# Altium schematic symbol library HyTechDevices.SCHLIB: 241 symbols (part 3 of 4)
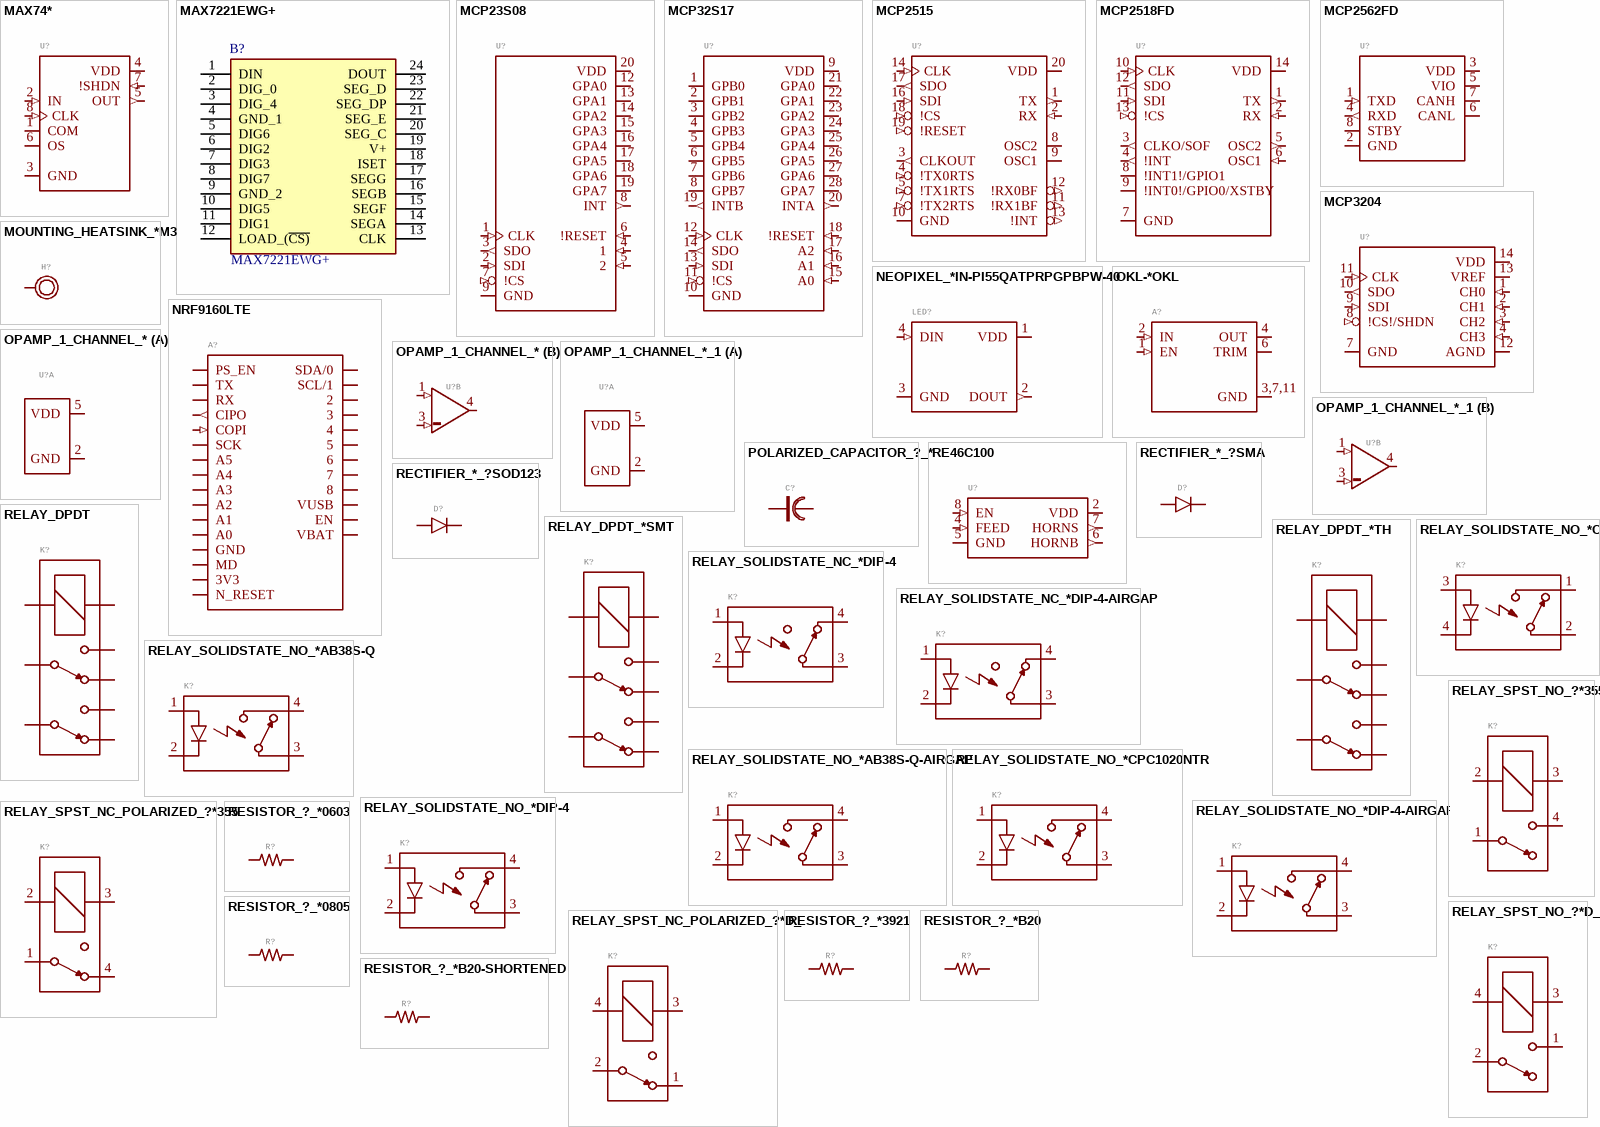
[diagram p9: symbols MAX74* to RESISTOR_?_*B20-SHORTENED]

## RESISTOR_?_*0603
designator R?, comment Resistor  PWR163 Series  AC Series    PU Series  ERA Series  PWR263 Series  KTR Series  RC Series  ERJ PB3, PB6 Series  ERJ  PA2, P03, PA3, P06, P08, P14 Series  B20 Series  TE Connectivity/Holsworthy RN73 Series  Vishay Dale D/CRCW e3  Ohmite B20  (value not drawn)
0603 Reistor; MANUFACTURER: Yageo; MPN: RC0603FR-070RL; MANUFACTURER: Panasonic Electronic Components; MPN: ERJ-3BWFR020V; MPN: RL0603FR-070R5L; MPN: ERJ-3EKF1131V; MPN: CRCW06031M13FKEA; MPN: RC0603FR-071K24L; MPN: ERA-3AEB1331V; MPN: RC0603FR-071M5L; MANUFACTURER: TE Conductivity Passive Product; MPN: CPF0603B1R62E1; MPN: RC0603FR-071K65L; MPN: RC0603FR-0710RL; MPN: ERA-3AEB1022V; MPN: ERA-3AEB1052V; MPN: RC0603FR-07100RL; MPN: RC0603FR-07100KL; MPN: ERA-3ARB103V; MPN: ERA-3AEB1132V; MPN: ERA-3AEB1152V; MPN: ERJ-PB3B1242V; MPN: ERA-3AEB121V; MPN: RC0603FR-0712KL; MPN: ERJ-1GNF13R0C; MPN: ERJ-PB3B1332V; MPN: ERA-3ARW133V; MPN: RT0603BRB0714KL; MPN: CRCW060315R0FKEAHP; MPN: ERA-3AEB154V; MPN: ERA-3AEB1543V; MPN: ERA-3ARB153V; MPN: RC0603FR-0717K8L; MPN: RC0603FR-0718K7L; MPN: RC0603FR-07180RL; MANUFACTURER: TE Connectivity Passive Product; MPN: CPF-A-0603B1K0E; MPN: RC0603FR-071ML; MPN: RT0805BRD072K18L; MPN: RC0603FR-072K55L; MPN: ERJ-PB3B2741V; MPN: RC0603FR-0720KL; MPN: ERJ-PB3B2100V; MPN: ERA-3AEB2153V; MPN: RC0603FR-0722RL; MPN: ERA-3AEB2212V; MPN: RC0603FR-07240RL; MANUFACTURER: Panasonic Electronic Company; MPN: ERA-3AEB2553V; MPN: ERJ-UP3F2001V; MPN: ERJ-3RQF3R3V; MPN: RT0603BRD073K32L; MPN: ERJ-PB3D3301V; MPN: RC0603FR-073K9L; MPN: ERJ-PB3B3092V; MPN: ERA-3ARB303V; MPN: ERJ-PB3B3322V; MPN: ERA-3AEB334V; MANUFACTURER: Rohm Semiconductor; MPN: KTR03EZPF3302; MPN: RC0603FR-0736K5L; MPN: RC0603FR-07360RL; MPN: KTR03EZPF3603; MPN: RC0603FR-07374KL; MPN: RT0603BRD0739RL; MPN: ERA-3AEB4121V; MPN: RC0603FR-074K64L; MPN: RC0603FR-07402RL; MPN: ERJ-1GNF41R2C; MPN: ERJ-PB3B4122V; MPN: RC0603FR-0743KL; MPN: ERJ-PA3F4700V; MPN: ERJ-P03J5R1V; MPN: RC0603FR-075K1L; MPN: RN73C1J5R49BTD; MPN: ERJ-PB3D5491V; MPN: ERA-3AEB5901V; MPN: RT0603BRE0750RL; MPN: KTR03EZPF5103; MPN: RC0603FR-0760R4L; MPN: RC0603FR-07620RL; MPN: ERA-3AEB7322V; MPN: RT0603BRE0775KL; MANUFACTURER: Vishay Dale Thin Film; MPN: PTN0603E8351BST1; MPN: RT0603BRD078K66L; MPN: ERA-3AEB8452V; MPN: ERJ-PB3B9312V; MANUFACTURER: Rohm; MPN: KTR03EZPF3301; MPN: KTR03EZPF7502; MPN: KTR03EZPF7503; GateName_1: G$1; DeviceName: 0603; DeviceSetName: RESISTOR_?_*; DKPN: 311-0.0HRCT-ND; MOPN: 603-RC0603FR-070RL; POWER: 0.1W; RESISTANCE: 0; TOLERANCE: 1%; VOLTAGE_CONTINUOUS: 75V; DKPN: P17461CT-ND; MOPN: 667-ERJ-3BWFR020V; POWER: 0.33W; RESISTANCE: 0.02; VOLTAGE_CONTINUOUS: 0.081V; VOLTAGE_MAX: 150V; DKPN: 311-.5QTR-ND; MOPN: 603-RL0603FR070R5L; RESISTANCE: 0.5; VOLTAGE_CONTINUOUS: 0.22V; DKPN: P1.13KHCT-ND; MOPN: 667-ERJ-3EKF1131V; RESISTANCE: 1.13k; DKPN: 541-1.13MHCT-ND; MOPN: 71-CRCW06031M13FKEA; RESISTANCE: 1.13M; VOLTAGE_MAX: 100V; DKPN: 311-1.24KHRCT-ND; MOPN: 603-RC0603FR-071K24L; RESISTANCE: 1.24k; VOLTAGE_CONTINUOUS: 11.14V; DKPN: P1.33KDBCT-ND; MOPN: 667-ERA-3AEB1331V; RESISTANCE: 1.33k; TOLERANCE: 0.1%; VOLTAGE_CONTINUOUS: 11.53V; DKPN: 311-1.50MHRCT-ND; MOPN: 603-RC0603FR-071M5L; RESISTANCE: 1.5M; DKPN: 1712-CPF0603B1R62E1TR-ND; MOPN: 279-CPF0603B1R62E1; RESISTANCE: 1.62; VOLTAGE_CONTINUOUS: 0.51V; VOLTAGE_MAX: 50V; DKPN: 311-1.65KHRCT-ND; MOPN: 603-RC0603FR-071K65L; RESISTANCE: 1.65k; VOLTAGE_CONTINUOUS: 12.85V; DKPN: 311-10.0HRCT-ND; MOPN: 603-RC0603FR-0710RL; RESISTANCE: 10; VOLTAGE_CONTINUOUS: 1.00V; DKPN: P10.2KDBCT-ND; MOPN: 667-ERA-3AEB1022V; RESISTANCE: 10.2k; VOLTAGE_CONTINUOUS: 31.94V; DKPN: P10.5KDBCT-ND; MOPN: 677-ERA-3AEB1052V; RESISTANCE: 10.5k; VOLTAGE_CONTINUOUS: 32.40V; DKPN: 311-100HRCT-ND; MOPN: 603-RC0603FR-07100RL; RESISTANCE: 100; VOLTAGE_CONTINUOUS: 3.16V; DKPN: 311-100KHRTR-ND; MOPN: 603-RC0603FR-07100KL; RESISTANCE: 100k; DKPN: P10KBDCT-ND; MOPN: 667-ERA-3ARB103V; RESISTANCE: 10k; VOLTAGE_CONTINUOUS: 31.62V; DKPN: P11.3KDBCT-ND; MOPN: 667-ERA-3AEB1132V; RESISTANCE: 11.3k; VOLTAGE_CONTINUOUS: 33.62V; DKPN: P11.5KDBCT-ND; MOPN: 667-ERA-3AEB1152V; RESISTANCE: 11.5k; VOLTAGE_CONTINUOUS: 33.91V; DKPN: P20096CT-ND; MOPN: 667-ERJ-PB3B1242V; POWER: 0.2W; RESISTANCE: 12.4k; VOLTAGE_CONTINUOUS: 49.79V; DKPN: P120DBCT-ND; MOPN: 667-ERA-3AEB121V; RESISTANCE: 120; VOLTAGE_CONTINUOUS: 3.46V; DKPN: 311-12.0KHRCT-ND; MOPN: 603-RC0603FR-0712KL; RESISTANCE: 12k; VOLTAGE_CONTINUOUS: 34.64V; DKPN: P122724CT-ND; MOPN: 667-ERJ-1GNF13R0C; POWER: 0.05W; RESISTANCE: 13; VOLTAGE_CONTINUOUS: 25V; DKPN: P20099TR-ND; MOPN: 667-ERJ-PB3B1332V; RESISTANCE: 13.3k; VOLTAGE_CONTINUOUS: 51.58V; VOLTAGE_MAX: 75k; DKPN: P13KBECT-ND; MOPN: 667-ERA-3ARW133V; RESISTANCE: 13k; TOLERANCE: 0.05%; DKPN: RT0603BRB0714KL-ND; MOPN: 603-RT0603BRB0714KL; RESISTANCE: 14k; VOLTAGE_CONTINUOUS: 37.4V; DKPN: 541-15.0STR-ND; MOPN: 71-CRCW060315R0FKEAH; RESISTANCE: 15; VOLTAGE_CONTINUOUS: 2.22V; DKPN: P150KDBCT-ND; MOPN: 667-ERA-3AEB154V; RESISTANCE: 150k; DKPN: P154KDBCT-ND; MOPN: 667-ERA-3AEB1543V; RESISTANCE: 154k; DKPN: P15KBDCT-ND; MOPN: 667-ERA-3ARB153V; RESISTANCE: 15k; VOLTAGE_CONTINUOUS: 38.73V; DKPN: 311-17.8KHRCT-ND; MOPN: 603-RC0603FR-0717K8L; RESISTANCE: 17.8k; VOLTAGE_CONTINUOUS: 42.19V; DKPN: 311-18.7KHRCT-ND; MOPN: 603-RC0603FR-0718K7L; RESISTANCE: 18.7k; VOLTAGE_CONTINUOUS: 43.24V; DKPN: 311-180HRCT-ND; MOPN: 603-RC0603FR-07180RL; RESISTANCE: 180; VOLTAGE_CONTINUOUS: 4.24V; DKPN: 1712-CPF-A-0603B1K0ETR-ND; MOPN: 279-CPF-A-0603B1K0E; POWER: 0.0625W; RESISTANCE: 1k; VOLTAGE_CONTINUOUS: 7.9V; DKPN: 311-1.00MHRCT-ND; MOPN: 603-RC0603FR-071ML; RESISTANCE: 1M; DKPN: 13-RT0805BRD072K18LTR-ND; MOPN: 603-RT0805BRD072K18L; POWER: 0.125W; RESISTANCE: 2.18k; VOLTAGE_CONTINUOUS: 16.51V; DKPN: 311-2.55KHRCT-ND; MOPN: 603-RC0603FR-072K55L; RESISTANCE: 2.55k; VOLTAGE_CONTINUOUS: 15.97V; DKPN: P20020CT-ND; MOPN: 667-ERJ-PB3B2741V; RESISTANCE: 2.74k; VOLTAGE_CONTINUOUS: 23.41V; DKPN: 311-20.0KHRTR-ND; MOPN: 603-RC0603FR-0720KL; POWER: 0.1 W; RESISTANCE: 20k; VOLTAGE_CONTINUOUS: 44.72V; DKPN: P19892CT-ND; MOPN: 667-ERJ-PB3B2100V; RESISTANCE: 210; VOLTAGE_CONTINUOUS: 6.48V; DKPN: P215KDBCT-ND; MOPN: 667-ERA-3AEB2153V; RESISTANCE: 215k; DKPN: 311-22.0HRCT-ND; MOPN: 603-RC0603FR-0722RL; RESISTANCE: 22; VOLTAGE_CONTINUOUS: 1.48V; DKPN: P22.1KDBCT-ND; MOPN: 667-ERA-3AEB2212V; RESISTANCE: 22.1k; VOLTAGE_CONTINUOUS: 47.01V; DKPN: 311-240HRCT-ND; MOPN: 603-RC0603FR-07240RL; RESISTANCE: 240; VOLTAGE_CONTINUOUS: 4.90V; DKPN: P255KDBCT-ND; MOPN: 667-ERA-3AEB2553V; RESISTANCE: 255k; DKPN: 10-ERJ-UP3F2001VTR-ND; MOPN: 667-ERJ-UP3F2001V; POWER: 0.25W; RESISTANCE: 2k; VOLTAGE_CONTINUOUS: 22.36V; DKPN: P3.3AJTR-ND; MOPN: 667-ERJ-3RQF3R3V; RESISTANCE: 3.3; VOLTAGE_CONTINUOUS: 0.57V; DKPN: YAG1651TR-ND; MOPN: 603-RT0603BRD073K32L; RESISTANCE: 3.32k; VOLTAGE_CONTINUOUS: 18.22V; DKPN: P20340TR-ND; MOPN: 667-ERJ-PB3D3301V; POWER: 0.3W; RESISTANCE: 3.3k; TOLERANCE: 0.5%; VOLTAGE_CONTINUOUS: 25.69V; VOLTAGE_MAX: 150; DKPN: 311-3.90KHRCT-ND; MOPN: 603-RC0603FR-073K9L; RESISTANCE: 3.9k; VOLTAGE_CONTINUOUS: 19.75V; DKPN: P20140CT-ND; MOPN: 667-ERJ-PB3B3092V; RESISTANCE: 30.9k; VOLTAGE_MAX: 200V; DKPN: P30KBDCT-ND; MOPN: 667-ERA-3ARB303V; RESISTANCE: 30k; VOLTAGE_CONTINUOUS: 54.77V; DKPN: P20144TR-ND; MOPN: 667-ERJ-PB3B3322V; RESISTANCE: 33.2k; VOLTAGE_CONTINUOUS: 57.61V; DKPN: P330KDBCT-ND; MOPN: 667-ERA-3AEB334V; RESISTANCE: 330k; DKPN: RHM33KAYTR-ND; MOPN: 755-KTR03EZPF3302; RESISTANCE: 33k; VOLTAGE_CONTINUOUS: 57.44V; VOLTAGE_MAX: 350V; DKPN: 311-36.5KHRCT-ND; MOPN: 603-RC0603FR-0736K5L; RESISTANCE: 36.5k; VOLTAGE_CONTINUOUS: 60.42V; DKPN: 311-360HRTR-ND; MOPN: 603-RC0603FR-07360RL; RESISTANCE: 360; VOLTAGE_CONTINUOUS: 6.00V; DKPN: RHM360KAYTR-ND; MOPN: 755-KTR03EZPF3603; RESISTANCE: 360k; VOLTAGE_CONTINUOUS: 189.74V; DKPN: 311-374KHRCT-ND; MOPN: 603-RC0603FR-07374KL; RESISTANCE: 374k; DKPN: 13-RT0603BRD0739RLTR-ND; MOPN: 603-RT0603BRD0739RL; RESISTANCE: 39; VOLTAGE_CONTINUOUS: 1.97V; DKPN: P4.12KDBCT-ND; MOPN: 667-ERA-3AEB4121V; RESISTANCE: 4.12k; VOLTAGE_CONTINUOUS: 20.30V; DKPN: 311-4.64KHRCT-ND; MOPN: 603-RC0603FR-074K64L; RESISTANCE: 4.64k; VOLTAGE_CONTINUOUS: 21.54V; DKPN: 311-402HRCT-ND; MOPN: 603-RC0603FR-07402RL; RESISTANCE: 402; VOLTAGE_CONTINUOUS: 6.34V; DKPN: P123000CT-ND; MOPN: 667-ERJ-1GNF41R2C; RESISTANCE: 41.2; DKPN: P20155CT-ND; MOPN: 667-ERJ-PB3B4122V; RESISTANCE: 41.2k; DKPN: 311-43.0KHRCT-ND; MOPN: 603-RC0603FR-0743KL; RESISTANCE: 43k; VOLTAGE_CONTINUOUS: 65.57V; DKPN: P470BYCT-ND; MOPN: 667-ERJ-PA3F4700V; RESISTANCE: 470; VOLTAGE_CONTINUOUS: 10.84V; DKPN: P16039TR-ND; MOPN: 667-ERJ-P03J5R1V; RESISTANCE: 5.1; VOLTAGE_CONTINUOUS: 1.13V; DKPN: 311-5.10KHRTR-ND; MOPN: 603-RC0603FR-075K1L; RESISTANCE: 5.1k; VOLTAGE_CONTINUOUS: 22.58V; DKPN: A124665CT-ND; MOPN: 279-RN73C1J5R49BTD; RESISTANCE: 5.49; DKPN: P20367CT-ND; MOPN: 667-ERJ-PB3D5491V; RESISTANCE: 5.49k; DKPN: P5.9KDBCT-ND; MOPN: 667-ERA-3AEB5901V; RESISTANCE: 5.9k; VOLTAGE_CONTINUOUS: 24.29V; DKPN: 13-RT0603BRE0750RLCT-ND; MOPN: 603-RT0603BRE0750RL; RESISTANCE: 50; VOLTAGE_CONTINUOUS: 2.24V; DKPN: RHM510KAYTR-ND; MOPN: 755-KTR03EZPF5103; RESISTANCE: 510k; VOLTAGE_CONTINUOUS: 225.83V; DKPN: 311-60.4HRCT-ND; MOPN: 603-RC0603FR-0760R4L; RESISTANCE: 60.4; VOLTAGE_CONTINUOUS: 2.48V; DKPN: 311-620HRCT-ND; MOPN: 603-RC0603FR-07620RL; RESISTANCE: 620; VOLTAGE_CONTINUOUS: 7.87V; DKPN: P73.2KDBCT-ND; MOPN: 667-ERA-3AEB7322V; RESISTANCE: 73.2k; DKPN: RT0603BRE0775KL-ND; MOPN: 603-RT0603BRE0775KL; DKPN: 764-1461-2-ND; MOPN: 71-PTN0603E8351BST1; POWER: 0.15W; RESISTANCE: 8.35k; VOLTAGE_CONTINUOUS: 28.90V; DKPN: YAG4603TR-ND; MOPN: 603-RT0603BRD078K66L; RESISTANCE: 8.66k; VOLTAGE_CONTINUOUS: 29.43V; DKPN: P84.5KDBCT-ND; MOPN: 667-ERA-3AEB8452V; RESISTANCE: 84.5k; DKPN: P20197CT-ND; MOPN: 667-ERJ-PB3B9312V; RESISTANCE: 93.1k; VOLTAGE_CONTINUOUS: 136V; RESISTANCE: DNP; DKPN: RHM3.3KAYTR-ND; MOPN: 755-KTR03EZPF3301; VOLTAGE_CONTINUOUS: 18.17V; DKPN: RHM75KAYTR-ND; MOPN: 755-KTR03EZPF7502; RESISTANCE: 750k; VOLTAGE_CONTINUOUS: 273.86V; DKPN: RHM750KAYTR-ND; MOPN: 755-KTR03EZPF7503; VOLTAGE_CONTINUOUS: 86.60V; SymbolName_1: RESISTOR; LibraryName: HyTechDevices; Package: 0603-RES; VOLTAGE_MAX: 75V; MANUFACTURER: Vishay Dale; MANUFACTURER: YAGEO; VOLTAGE_CONTINUOUS: 150V; VOLTAGE_CONTINUOUS: 50V; RESISTANCE: 75k
footprint 0603-RES
pins: 1, 2

## RESISTOR_?_*0805
designator R?, comment Resistor  PWR163 Series  AC Series    PU Series  ERA Series  PWR263 Series  KTR Series  RC Series  ERJ PB3, PB6 Series  ERJ  PA2, P03, PA3, P06, P08, P14 Series  B20 Series  TE Connectivity/Holsworthy RN73 Series  Vishay Dale D/CRCW e3  Ohmite B20  (value not drawn)
0805 Resistor; MANUFACTURER: Yageo; MPN: RL0805FR-070R62L; MANUFACTURER: Panasonic Electronic Components; MPN: ERJ-6RQF1R0V; MPN: ERJ-6ENF12R4V; MPN: ERJ-PB6B1242V; MPN: ERJ-6ENF1432V; MPN: ERJ-6ENF1912V; MPN: ERJ-P06J102V; MPN: ERJ-PB6B1004V; MPN: RC0805FR-07200RL; MPN: ERJ-P06F22R0V; MPN: CRCW060331K6FKEAHP; MPN: ERJ-P06J360V; MPN: ERJ-PB6B3653V; MPN: ERJ-6DQJ5R1V; MPN: ERJ-PB3B5902V; MPN: ERJ-PB6B5233V; MPN: ERJ-P06D56R0V; MPN: ERJ-PB6B9313V; MPN: ERJ-6ENF9533V; MPN: ERJ-PB6B9763V; MANUFACTURER: Rohm Semiconductor; MPN: KTR10EZPF1004; MPN: KTR10EZPF3303; MANUFACTURER: Rohm; MPN: KTR10EZPF3653; MPN: KTR10EZPF7502; GateName_1: G$1; DeviceName: 0805; DeviceSetName: RESISTOR_?_*; DKPN: 311-.62SCT-ND; MOPN: 603-RL0805FR-070R62L; POWER: 0.125W; RESISTANCE: 0.62; TOLERANCE: 1%; VOLTAGE_CONTINUOUS: 0.28V; VOLTAGE_MAX: 0.70V; DKPN: P1.0DTR-ND; MOPN: 667-ERJ-6RQF1R0V; RESISTANCE: 1; VOLTAGE_CONTINUOUS: 0.35V; VOLTAGE_MAX: 150V; DKPN: P12.4CTR-ND; MOPN: 667-ERJ-6ENF12R4V; POWER: .125W; RESISTANCE: 12.4; VOLTAGE_CONTINUOUS: 1.24V; DKPN: P20718CT-ND; MOPN: 667-ERJ-PB6B1242V; POWER: 0.25W; RESISTANCE: 12.4k; TOLERANCE: 0.1%; VOLTAGE_CONTINUOUS: 55.68V; DKPN: P14.3KCCT-ND; MOPN: 667-ERJ-6ENF1432V; RESISTANCE: 14.3k; VOLTAGE_MAX: 200V; DKPN: P19.1KCCT-ND; MOPN: 667-ERJ-6ENF1912V; RESISTANCE: 19.1k; DKPN: P1.0KADTR-ND; MOPN: 667-ERJ-P06J102V; POWER: 0.5W; RESISTANCE: 1k; TOLERANCE: 5%; VOLTAGE_CONTINUOUS: 22.36V; VOLTAGE_MAX: 400V; DKPN: P20936TR-ND; MOPN: 667-ERJ-PB6B1004V; RESISTANCE: 1M; DKPN: 311-200CRCT-ND; MOPN: 603-RC0805FR-07200RL; RESISTANCE: 200; VOLTAGE_CONTINUOUS: 5V; DKPN: P16066TR-ND; MOPN: 667-ERJ-P06F22R0V; RESISTANCE: 22; VOLTAGE_CONTINUOUS: 3.32V; DKPN: 541-31.6KSCT-ND; MOPN: 71-CRCW060331K6FKEAH; POWER: 0.33W; RESISTANCE: 31.6k; DKPN: P36ADTR-ND; MOPN: 667-ERJ-P06J360V; RESISTANCE: 36; VOLTAGE_CONTINUOUS: 4.243V; DKPN: P20885CT-ND; MOPN: 667-ERJ-PB6B3653V; RESISTANCE: 365k; DKPN: P19237TR-ND; MOPN: 667-ERJ-6DQJ5R1V; RESISTANCE: 5.1; VOLTAGE_CONTINUOUS: 1.597V; DKPN: P20174TR-ND; MOPN: 667-ERJ-PB3B5902V; POWER: 0.2W; RESISTANCE: 5.9k; VOLTAGE_CONTINUOUS: 34.3V; DKPN: P20904TR-ND; MOPN: 667-ERJ-PB6B5233V; RESISTANCE: 523k; DKPN: P16053TR-ND; MOPN: 667-ERJ-P06D56R0V; RESISTANCE: 56; VOLTAGE_CONTINUOUS: 5.29V; DKPN: P20933CT-ND; MOPN: 667-ERJ-PB6B9313V; RESISTANCE: 931k; DKPN: P953KCCT-ND; MOPN: 667-ERJ-6ENF9533V; RESISTANCE: 953k; DKPN: P20935TR-ND; MOPN: 667-ERJ-PB6B9763V; RESISTANCE: 976k; DKPN: RHM1.00MAHTR-ND; MOPN: 755-KTR10EZPF1004; VOLTAGE_CONTINUOUS: 353.5V; DKPN: RHM330KAHTR-ND; MOPN: 755-KTR10EZPF3303; RESISTANCE: 330k; VOLTAGE_CONTINUOUS: 203.1V; DKPN: RHM365KAHTR-ND; MOPN: 755-KTR10EZPF3653; VOLTAGE_CONTINUOUS: 213V; VOLTAGE_MAX: 350V; DKPN: RHM75KAHTR-ND; MOPN: 755-KTR10EZPF7502; RESISTANCE: 75k; VOLTAGE_CONTINUOUS: 96.8V; SymbolName_1: RESISTOR; LibraryName: HyTechDevices; Package: 0805-RES; VOLTAGE_CONTINUOUS: 150V; MANUFACTURER: Vishay Dale
footprint 0805-RES
pins: 1, 2

## RESISTOR_?_*3921
designator R?, comment Resistor  PWR163 Series  AC Series    PU Series  ERA Series  PWR263 Series  KTR Series  RC Series  ERJ PB3, PB6 Series  ERJ  PA2, P03, PA3, P06, P08, P14 Series  B20 Series  TE Connectivity/Holsworthy RN73 Series  Vishay Dale D/CRCW e3  Ohmite B20  (value not drawn)
3921 Resistor; MANUFACTURER: Yageo; MPN: PU3921FKMP50R001L; GateName_1: G$1; DeviceName: 3921; DeviceSetName: RESISTOR_?_*; DKPN: YAG6126CT-ND; MOPN: 603-U3921FKMP50R001L; POWER: 5W; RESISTANCE: 1mΩ; TOLERANCE: 1%; VOLTAGE_CONTINUOUS: 0.07V; SymbolName_1: RESISTOR; LibraryName: HyTechDevices; Package: 3921; VOLTAGE_MAX: 0.07V
footprint 3921
pins: 1, 2

## RESISTOR_?_*B20
designator R?, comment Resistor  PWR163 Series  AC Series    PU Series  ERA Series  PWR263 Series  KTR Series  RC Series  ERJ PB3, PB6 Series  ERJ  PA2, P03, PA3, P06, P08, P14 Series  B20 Series  TE Connectivity/Holsworthy RN73 Series  Vishay Dale D/CRCW e3  Ohmite B20  (value not drawn)
MPN: B20J1K5E; MPN: B20J10KE; MPN: B20J15KE; MPN: B20J750E; GateName_1: G$1; DeviceSetName: RESISTOR_?_*; DKPN: B20J1K5E-ND; MOPN: 588-B20J1K5E; POWER: 20W; RESISTANCE: 1.5K; TOLERANCE: 5%; VOLTAGE_CONTINUOUS: 173V; VOLTAGE_MAX: 750V; DKPN: B20J10KE-ND; MOPN: 588-B20J10KE; RESISTANCE: 10k; VOLTAGE_CONTINUOUS: 447V; DKPN: B20J15KE-ND; MOPN: 588-B20J15KE; RESISTANCE: 15K; VOLTAGE_CONTINUOUS: 548V; DKPN: B20J750E-ND; MOPN: 588-B20J750E; RESISTANCE: 750; VOLTAGE_CONTINUOUS: 122V; SymbolName_1: RESISTOR; DeviceName: B20; LibraryName: HyTechDevices; Package: B20; MANUFACTURER: Ohmite
footprint B20
pins: 1, 2

## RESISTOR_?_*B20-SHORTENED
designator R?, comment Resistor  PWR163 Series  AC Series    PU Series  ERA Series  PWR263 Series  KTR Series  RC Series  ERJ PB3, PB6 Series  ERJ  PA2, P03, PA3, P06, P08, P14 Series  B20 Series  TE Connectivity/Holsworthy RN73 Series  Vishay Dale D/CRCW e3  Ohmite B20  (value not drawn)
MPN: B20J1K5E; MPN: B20J15KE; GateName_1: G$1; DeviceName: B20-SHORTENED; DeviceSetName: RESISTOR_?_*; DKPN: B20J1K5E-ND; MOPN: 588-B20J1K5E; POWER: 20W; RESISTANCE: 1.5K; TOLERANCE: 5%; VOLTAGE_CONTINUOUS: 173V; VOLTAGE_MAX: 750V; DKPN: B20J15KE-ND; MOPN: 588-B20J15KE; RESISTANCE: 15K; VOLTAGE_CONTINUOUS: 548V; SymbolName_1: RESISTOR; LibraryName: HyTechDevices; Package: B20-SHORTENED; MANUFACTURER: Ohmite
footprint B20-SHORTENED
pins: 1, 2

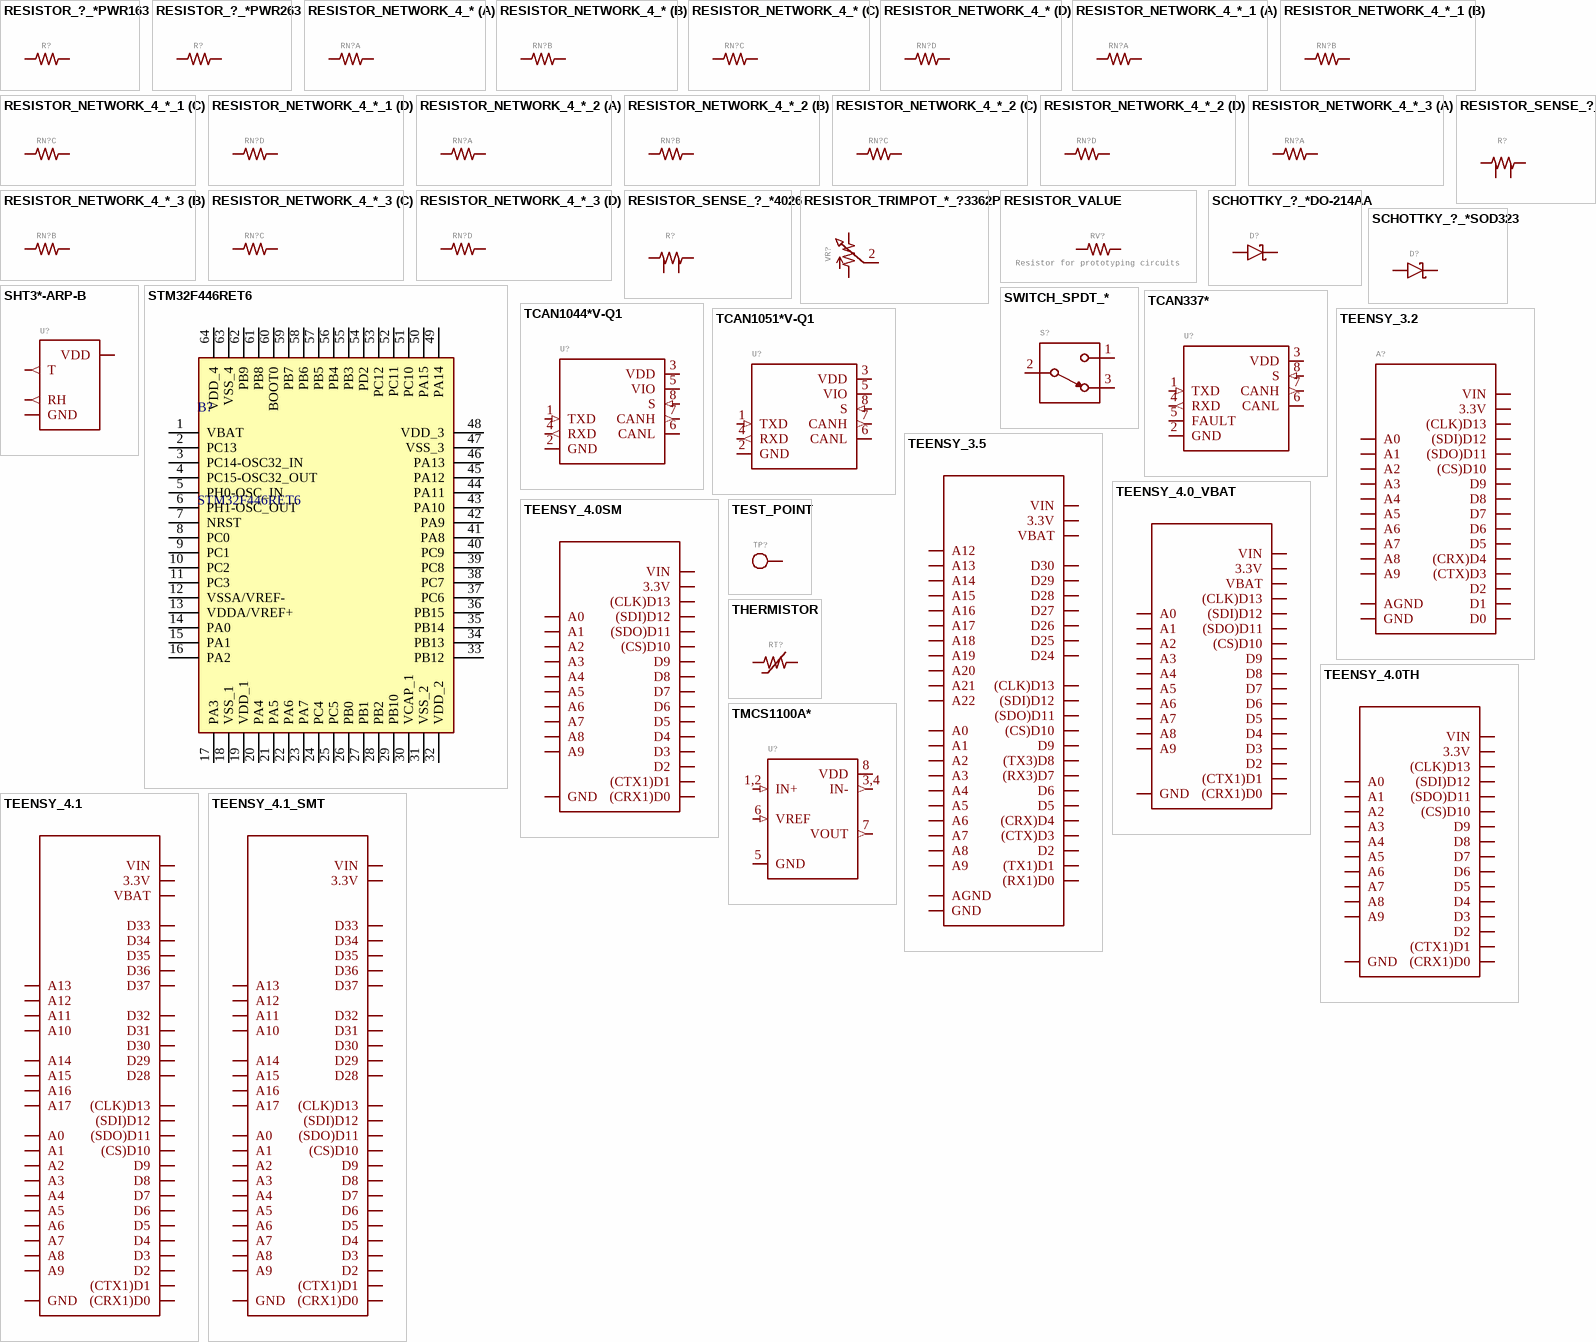
[diagram p5: symbols RESISTOR_?_*PWR163 to TMCS1100A*]

## RESISTOR_?_*PWR163
designator R?, comment Resistor  PWR163 Series  AC Series    PU Series  ERA Series  PWR263 Series  KTR Series  RC Series  ERJ PB3, PB6 Series  ERJ  PA2, P03, PA3, P06, P08, P14 Series  B20 Series  TE Connectivity/Holsworthy RN73 Series  Vishay Dale D/CRCW e3  Ohmite B20  (value not drawn)
MANUFACTURER: Bourns Inc.; MPN: PWR163S-25-5R00FE; GateName_1: G$1; DeviceSetName: RESISTOR_?_*; DKPN: PWR163S-25-5R00FECT-ND; MOPN: 652-PWR163S255R00FE; POWER: 2.8W; RESISTANCE: 5; TOLERANCE: 1%; VOLTAGE_CONTINUOUS: 3.741V; SymbolName_1: RESISTOR; DeviceName: PWR163; LibraryName: HyTechDevices; Package: PWR163; VOLTAGE_MAX: 3.741V
footprint PWR163
pins: 1, 2

## RESISTOR_?_*PWR263
designator R?, comment Resistor  PWR163 Series  AC Series    PU Series  ERA Series  PWR263 Series  KTR Series  RC Series  ERJ PB3, PB6 Series  ERJ  PA2, P03, PA3, P06, P08, P14 Series  B20 Series  TE Connectivity/Holsworthy RN73 Series  Vishay Dale D/CRCW e3  Ohmite B20  (value not drawn)
MANUFACTURER: Bourns Inc.; MPN: PWR263S-35-5R00F; MPN: PWR263S-35-7R50J; GateName_1: G$1; DeviceSetName: RESISTOR_?_*; DKPN: PWR263S-35-5R00F-ND; MOPN: 652-PWR263S355R00F; POWER: 3.5W; RESISTANCE: 5; TOLERANCE: 1%; VOLTAGE_CONTINUOUS: 4.183V; DKPN: PWR263S-35-7R50J-ND; MOPN: 652-PWR263S357R50J; RESISTANCE: 7.5; TOLERANCE: 5%; VOLTAGE_CONTINUOUS: 5.123V; SymbolName_1: RESISTOR; DeviceName: PWR263; LibraryName: HyTechDevices; Package: PWR263; VOLTAGE_MAX: 4.183V; VOLTAGE_MAX: 5.123V
footprint PWR263
pins: 1, 2

## RESISTOR_NETWORK_4_*
designator RN?, comment Resistor Network, 4 Elements  YC/TC Series  CAT/CAY 16 Series  (value not drawn)
MANUFACTURER: Bourns Inc.; MPN: CAT16-100J4LF; MPN: CAT16-1000F4LF; MANUFACTURER: Yageo; MPN: TC164-FR-0710KL; MPN: YC164-JR-07160RL; MPN: YC164-FR-071KL; MPN: CAT16-2702F4LF; GateName_1: A; GateName_2: B; GateName_3: C; GateName_4: D; DeviceSetName: RESISTOR_NETWORK_4_*; DKPN: CAT16-100J4LFCT-ND; MOPN: 652-CAT16-100J4LF; POWER: 1/16W; RESISTANCE: 10; TOLERANCE: 5%; VOLTAGE: 50V; DKPN: CAT16-1000F4LFCT-ND; MOPN: 652-CAT16-1000F4LF; RESISTANCE: 100; TOLERANCE: 1%; DKPN: YAG3410CT-ND; MOPN: 603-TC164-FR-0710KL; RESISTANCE: 10K; DKPN: YC164J-160CT-ND; MOPN: 603-YC164-JR-07160RL; RESISTANCE: 160; DKPN: 13-YC164-FR-071KLCT-ND; MOPN: 603-YC164-FR-071KL; RESISTANCE: 1k; DKPN: CAT16-2702F4LFCT-ND; MOPN: 652-CAT16-2702F4LF; RESISTANCE: 27K; SymbolName_1: RESISTOR; SymbolName_2: RESISTOR; SymbolName_3: RESISTOR; SymbolName_4: RESISTOR; LibraryName: HyTechDevices; Package: 1206-RES-ARRAY
footprint 1206-RES-ARRAY
part A pins: 1, 8 2
part B pins: 2 1, 7 2
part C pins: 3 1, 6 2
part D pins: 4 1, 5 2

## RESISTOR_NETWORK_4_*_1
designator RN?, comment Resistor Network, 4 Elements  YC/TC Series  CAT/CAY 16 Series  (value not drawn)
MANUFACTURER: Bourns Inc.; MPN: CAT16-100J4LF; MPN: CAT16-1000F4LF; MANUFACTURER: Yageo; MPN: TC164-FR-0710KL; MPN: YC164-JR-07160RL; MPN: YC164-FR-071KL; MPN: CAT16-2702F4LF; GateName_1: A; GateName_2: B; GateName_3: C; GateName_4: D; DeviceSetName: RESISTOR_NETWORK_4_*; DKPN: CAT16-100J4LFCT-ND; MOPN: 652-CAT16-100J4LF; POWER: 1/16W; RESISTANCE: 10; TOLERANCE: 5%; VOLTAGE: 50V; DKPN: CAT16-1000F4LFCT-ND; MOPN: 652-CAT16-1000F4LF; RESISTANCE: 100; TOLERANCE: 1%; DKPN: YAG3410CT-ND; MOPN: 603-TC164-FR-0710KL; RESISTANCE: 10K; DKPN: YC164J-160CT-ND; MOPN: 603-YC164-JR-07160RL; RESISTANCE: 160; DKPN: 13-YC164-FR-071KLCT-ND; MOPN: 603-YC164-FR-071KL; RESISTANCE: 1k; DKPN: CAT16-2702F4LFCT-ND; MOPN: 652-CAT16-2702F4LF; RESISTANCE: 27K; SymbolName_1: RESISTOR; SymbolName_2: RESISTOR; SymbolName_3: RESISTOR; SymbolName_4: RESISTOR; LibraryName: HyTechDevices; Package: 1206-RES-ARRAY
footprint 1206-RES-ARRAY
part A pins: 1, 8 2
part B pins: 2 1, 7 2
part C pins: 3 1, 6 2
part D pins: 4 1, 5 2

## RESISTOR_NETWORK_4_*_2
designator RN?, comment Resistor Network, 4 Elements  YC/TC Series  CAT/CAY 16 Series  (value not drawn)
MANUFACTURER: Bourns Inc.; MPN: CAT16-100J4LF; MPN: CAT16-1000F4LF; MANUFACTURER: Yageo; MPN: TC164-FR-0710KL; MPN: YC164-JR-07160RL; MPN: YC164-FR-071KL; MPN: CAT16-2702F4LF; GateName_1: A; GateName_2: B; GateName_3: C; GateName_4: D; DeviceSetName: RESISTOR_NETWORK_4_*; DKPN: CAT16-100J4LFCT-ND; MOPN: 652-CAT16-100J4LF; POWER: 1/16W; RESISTANCE: 10; TOLERANCE: 5%; VOLTAGE: 50V; DKPN: CAT16-1000F4LFCT-ND; MOPN: 652-CAT16-1000F4LF; RESISTANCE: 100; TOLERANCE: 1%; DKPN: YAG3410CT-ND; MOPN: 603-TC164-FR-0710KL; RESISTANCE: 10K; DKPN: YC164J-160CT-ND; MOPN: 603-YC164-JR-07160RL; RESISTANCE: 160; DKPN: 13-YC164-FR-071KLCT-ND; MOPN: 603-YC164-FR-071KL; RESISTANCE: 1k; DKPN: CAT16-2702F4LFCT-ND; MOPN: 652-CAT16-2702F4LF; RESISTANCE: 27K; SymbolName_1: RESISTOR; SymbolName_2: RESISTOR; SymbolName_3: RESISTOR; SymbolName_4: RESISTOR; LibraryName: HyTechDevices; Package: 1206-RES-ARRAY
footprint 1206-RES-ARRAY
part A pins: 1, 8 2
part B pins: 2 1, 7 2
part C pins: 3 1, 6 2
part D pins: 4 1, 5 2

## RESISTOR_NETWORK_4_*_3
designator RN?, comment Resistor Network, 4 Elements  YC/TC Series  CAT/CAY 16 Series  (value not drawn)
MANUFACTURER: Bourns Inc.; MPN: CAT16-100J4LF; MPN: CAT16-1000F4LF; MANUFACTURER: Yageo; MPN: TC164-FR-0710KL; MPN: YC164-JR-07160RL; MPN: YC164-FR-071KL; MPN: CAT16-2702F4LF; GateName_1: A; GateName_2: B; GateName_3: C; GateName_4: D; DeviceSetName: RESISTOR_NETWORK_4_*; DKPN: CAT16-100J4LFCT-ND; MOPN: 652-CAT16-100J4LF; POWER: 1/16W; RESISTANCE: 10; TOLERANCE: 5%; VOLTAGE: 50V; DKPN: CAT16-1000F4LFCT-ND; MOPN: 652-CAT16-1000F4LF; RESISTANCE: 100; TOLERANCE: 1%; DKPN: YAG3410CT-ND; MOPN: 603-TC164-FR-0710KL; RESISTANCE: 10K; DKPN: YC164J-160CT-ND; MOPN: 603-YC164-JR-07160RL; RESISTANCE: 160; DKPN: 13-YC164-FR-071KLCT-ND; MOPN: 603-YC164-FR-071KL; RESISTANCE: 1k; DKPN: CAT16-2702F4LFCT-ND; MOPN: 652-CAT16-2702F4LF; RESISTANCE: 27K; SymbolName_1: RESISTOR; SymbolName_2: RESISTOR; SymbolName_3: RESISTOR; SymbolName_4: RESISTOR; LibraryName: HyTechDevices; Package: 1206-RES-ARRAY
footprint 1206-RES-ARRAY
part A pins: 1, 8 2
part B pins: 2 1, 7 2
part C pins: 3 1, 6 2
part D pins: 4 1, 5 2

## RESISTOR_SENSE_?_*
designator R?, comment Sense Resistor  Vishay WSL2726 Vishay 4026  (value not drawn)
MANUFACTURER: Vishay Dale; MPN: WSL27261L300FEA; GateName_1: G$1; SymbolName_1: RESISTOR_SENSE; DeviceSetName: RESISTOR_SENSE_?_*; DKPN: 541-WSL27261L300FEACT-ND; MOPN: 71-WSL27261L300FEA; POWER: 3W; RESISTANCE: 1.3mΩ; TOLERANCE: 1%; VOLTAGE: 0.0624V; LibraryName: HyTechDevices; Package: WSL2726
footprint WSL2726
pins: 1, 2, 3, 4

## RESISTOR_SENSE_?_*4026
designator R?, comment Sense Resistor  Vishay WSL2726 Vishay 4026  (value not drawn)
MANUFACTURER: Vishay Dale; MPN: WSL40262L000FEB; GateName_1: G$1; SymbolName_1: RESISTOR_SENSE; DeviceName: 4026; DeviceSetName: RESISTOR_SENSE_?_*; DKPN: WSLR-.002CT-ND; MOPN: 71-WSL40262L000FEB; POWER: 3W; RESISTANCE: 2.0mΩ; TOLERANCE: 1%; VOLTAGE: 0.077V; LibraryName: HyTechDevices; Package: 4026
footprint 4026
pins: 1, 2, 3, 4

## RESISTOR_TRIMPOT_*_?3362P
designator VR?, comment Variable Resistor  Bourns 3362P Datasheet  (value not drawn)
MANUFACTURER: Bourns Inc.; MPN: 3362P-1-103LF; GateName_1: G$1; SymbolName_1: RESISTOR_TRIMPOT; DeviceSetName: RESISTOR_TRIMPOT_*_?; DKPN: 3362P-103LF-ND; MOPN: 652-3362P-1-103LF; POWER: 0.5W; RESISTANCE: 10k; TOLERANCE: 10%; VOLTAGE: 70.711V; DeviceName: 3362P; LibraryName: HyTechDevices; Package: 3362P
footprint 3362P
pins: 1, 2 3, 3 2

## RESISTOR_VALUE
designator RV?, comment Resistor for prototyping circuits
GateName_1: G$1; SymbolName_1: RESISTOR_VALUE; LibraryName: HyTechDevices; DeviceSetName: RESISTOR_VALUE; Package: 0603-RES
footprint 0603-RES
pins: 1, 2

## SCHOTTKY_?_*DO-214AA
designator D?, comment CUS08F30 Shottky Diode  Datasheet  (value not drawn)
MANUFACTURER: Comchip Technology; MPN: CDBB3150-HF; GateName_1: G$1; SymbolName_1: DIODE_SCHOTTKY; DeviceName: DO-214AA; DeviceSetName: SCHOTTKY_?_*; CURRENT: 3A; DKPN: 641-1720-1-ND; MOPN: 750-CDBB3150-HF; VOLTAGE: 150V; LibraryName: HyTechDevices; Package: DO-214AA
footprint DO-214AA
pins: 1 A, 2 C

## SCHOTTKY_?_*SOD323
designator D?, comment CUS08F30 Shottky Diode  Datasheet  (value not drawn)
MANUFACTURER: Toshiba Semiconductor and Storage; MANUFACTURER: Panjit International Inc.; MPN: MBR1060HEWS_R1_00001; GateName_1: G$1; SymbolName_1: DIODE_SCHOTTKY; DeviceName: SOD323; DeviceSetName: SCHOTTKY_?_*; CURRENT: 0.8A; DKPN: CUS08F30H3FTR-ND; MOPN: 757-CUS08F30H3F; VOLTAGE: 30V; CURRENT: 1A; DKPN: 3757-MBR1060HEWS_R1_00001TR-ND; MOPN: 241-MBR1060HEWSR1000; VOLTAGE: 60V; LibraryName: HyTechDevices; Package: SOD-323; MPN: CUS08F30
footprint SOD-323
pins: A, C

## SHT3*-ARP-B
designator U?, comment Humidity and Temperature Sensor  SHT30: Low Grade  SHT31: High Grade  Datasheet  (value not drawn)
MANUFACTURER: Sensirion AG; MPN: SHT30-ARP-B; MPN: SHT31-ARP-B; GateName_1: G$1; SymbolName_1: SENSOR_HUMIDITY_TEMPERATURE; DeviceSetName: SHT3*-ARP-B; DKPN: 1649-1010-1-ND; MOPN: 403-SHT30-ARP-B; DKPN: 1649-1012-1-ND; MOPN: 403-SHT31-ARP-B; LibraryName: HyTechDevices; Package: DFN-8
footprint DFN-8
pins: 1 RH (out), 2,3,7,8,PAD GND (power), 4 T (out), 5 VDD (power)

## STM32F446RET6
designator B?
32-Bit MCU+DSP 512K Flash 180MHz LQFP64 STMicroelectronics STM32F446RET6, 32bit ARM Cortex M4 MCU, 180MHz, 512 kB Flash, 64-Pin LQFP; Geometry.Height: 1.6mm; Mouser Part Number: 511-STM32F446RET6; Mouser Price/Stock: https://www.mouser.co.uk/ProductDetail/STMicroelectronics/STM32F446RET6?qs=Ok1pvOkw6%2FqpQsWf8F4wtQ%3D%3D; Manufacturer_Name: STMicroelectronics; Manufacturer_Part_Number: STM32F446RET6; Datasheet Link: https://datasheet.datasheetarchive.com/originals/distributors/DKDS41/DSANUWW0028583.pdf
footprint QFP50P1200X1200X160-64N
footprint LQFP-64-STM32 (64 pin LQFP package for STM32F446RET6 and similar)
pins: 1 VBAT, 2 PC13, 3 PC14-OSC32_IN, 4 PC15-OSC32_OUT, 5 PH0-OSC_IN, 6 PH1-OSC_OUT, 7 NRST, 8 PC0, 9 PC1, 10 PC2, 11 PC3, 12 VSSA/VREF-, 13 VDDA/VREF+, 14 PA0, 15 PA1, 16 PA2, 17 PA3, 18 VSS_1, 19 VDD_1, 20 PA4, 21 PA5, 22 PA6, 23 PA7, 24 PC4, 25 PC5, 26 PB0, 27 PB1, 28 PB2, 29 PB10, 30 VCAP_1, 31 VSS_2, 32 VDD_2, 33 PB12, 34 PB13, 35 PB14, 36 PB15, 37 PC6, 38 PC7, 39 PC8, 40 PC9, 41 PA8, 42 PA9, 43 PA10, 44 PA11, 45 PA12, 46 PA13, 47 VSS_3, 48 VDD_3, 49 PA14, 50 PA15, 51 PC10, 52 PC11, 53 PC12, 54 PD2, 55 PB3, 56 PB4, 57 PB5, 58 PB6, 59 PB7, 60 BOOT0, 61 PB8, 62 PB9, 63 VSS_4, 64 VDD_4

## SWITCH_SPDT_*
designator S?, comment Single pole, double throw switch  Datasheet  (value not drawn)
MANUFACTURER: NKK Switches; MPN: CS12ANW03; GateName_1: G$1; SymbolName_1: SWITCH_SPDT; DeviceSetName: SWITCH_SPDT_*; DKPN: 360-2131-ND; MOPN: 633-CS12ANW03; LibraryName: HyTechDevices; Package: CS12ANW03
footprint CS12ANW03
pins: 1 (io), 2 COM (io), 3 2 (io)

## TCAN337*
designator U?, comment TCAN337 Can Tranciever  Datasheet  (value not drawn)
MANUFACTURER: Texas Instruments; MPN: TCAN337GDCNR; GateName_1: G$1; SymbolName_1: CAN_TRANSCIEVER_TCAN337; DeviceSetName: TCAN337*; DKPN: 296-48971-1-ND; MOPN: 595-TCAN337GDCNR; LibraryName: HyTechDevices; Package: SOT-23-8
footprint SOT-23-8
pins: 1 TXD (in), 2 GND (power), 3 VDD (power), 4 RXD (out), 5 FAULT (oc), 6 CANL (io), 7 CANH (out), 8 S (in)

## TCAN1044*V-Q1
designator U?, comment TCAN1044*V Can Tranciever  Datasheet  (value not drawn)
MANUFACTURER: Texas Instruments; MPN: TCAN1044AEVDRQ1; GateName_1: G$1; SymbolName_1: CAN_TRANSCIEVER_TCAN1051*V; DeviceSetName: TCAN1044*V-Q1; DKPN: 296-TCAN1044AEVDRQ1TR-ND; MOPN: 595-TCAN1044AEVDRQ1; LibraryName: HyTechDevices; Package: SOIC-08(NARROW,0.15")
footprint SOIC-08(NARROW,0.15")
pins: 1 TXD (in), 2 GND (power), 3 VDD (power), 4 RXD (out), 5 VIO (power), 6 CANL (io), 7 CANH (out), 8 S (in)

## TCAN1051*V-Q1
designator U?, comment TCAN1051*V Can Tranciever  Datasheet  (value not drawn)
MANUFACTURER: Texas Instruments; MPN: TCAN1051HGVDRQ1; GateName_1: G$1; SymbolName_1: CAN_TRANSCIEVER_TCAN1051*V; DeviceSetName: TCAN1051*V-Q1; DKPN: 296-49935-1-ND; MOPN: 595-TCAN1051HGVDQ1; LibraryName: HyTechDevices; Package: SOIC-08(NARROW,0.15")
footprint SOIC-08(NARROW,0-15")
pins: 1 TXD (in), 2 GND (power), 3 VDD (power), 4 RXD (out), 5 VIO (power), 6 CANL (io), 7 CANH (out), 8 S (in)

## TEENSY_3.2
designator A?, comment Teensy 3.2  Datasheet Requires ordering of:  2: 14 pin, 0.1" pitch female headers  (value not drawn)
GateName_1: G$1; SymbolName_1: TEENSY_3.2; TEENSY: 3.2; LibraryName: HyTechDevices; DeviceSetName: TEENSY_3.2; Package: TEENSY_SHORT
footprint TEENSY_SHORT
pins: 3.3V (power), AGND/GND AGND (power), D0 (io), D1 (io), D2 (io), D3 (CTX)D3 (io), D4 (CRX)D4 (io), D5 (io), D6 (io), D7 (io), D8 (io), D9 (io), D10 (CS)D10 (io), D11 (SDO)D11 (io), D12 (SDI)D12 (io), D13 (CLK)D13 (io), D14 A0 (io), D15 A1 (io), D16 A2 (io), D17 A3 (io), D18 A4 (io), D19 A5 (io), D20 A6 (io), D21 A7 (io), D22 A8 (io), D23 A9 (io), GND (power), VIN (power)

## TEENSY_3.5
designator A?, comment Teensy 3.5  Datasheet Requires ordering of:  2: 24 pin, 0.1" pitch female headers  1:  2 pin, 0.1" pitch female headers  (value not drawn)
GateName_1: G$1; SymbolName_1: TEENSY_3.5_EXT; DeviceSetName: TEENSY_3.5; TEENSY: 3.5; LibraryName: HyTechDevices; Package: TEENSY_LONG_EXT
footprint TEENSY_LONG_EXT
pins: 3V3,3V3@2,3V3@3 3.3V (power), AGND/GND AGND (power), D0 (RX1)D0 (io), D1 (TX1)D1 (io), D2 (io), D3 (CTX)D3 (io), D4 (CRX)D4 (io), D5 (io), D6 (io), D7 (RX3)D7 (io), D8 (TX3)D8 (io), D9 (io), D10 (CS)D10 (io), D11 (SDO)D11 (io), D12 (SDI)D12 (io), D13 (CLK)D13 (io), D14 A0 (io), D15 A1 (io), D16 A2 (io), D17 A3 (io), D18 A4 (io), D19 A5 (io), D20 A6 (io), D21 A7 (io), D22 A8 (io), D23 A9 (io), D24 (io), D25 (io), D26 (io), D27 (io), D28 (io), D29 (io), D30 (io), D31 A12 (io), D32 A13 (io), D33 A14 (io), D34 A15 (io), D35 A16 (io), D36 A17 (io), D37 A18 (io), D38 A19 (io), D39 A20 (io), D40 A21 (io), D41 A22 (io), GND,GND@2 GND (power), VBAT (power), VIN (power)

## TEENSY_4.0_VBAT
designator A?, comment Teensy 4.0 with VBAT Pin  Datasheet Requires ordering of:  1: 14 pin, 0.1" pitch female headers  1: 13 pin, 0.1" pitch female headers  1:   2 pin, 0.1" pitch female headers  (value not drawn)
GateName_1: G$1; SymbolName_1: TEENSY_4.0_VBAT; TEENSY: 4.0; LibraryName: HyTechDevices; DeviceSetName: TEENSY_4.0_VBAT; Package: TEENSY_SHORT_VBAT
footprint TEENSY_SHORT_VBAT
pins: 3.3V (power), AGND/GND,GND GND (power), D0 (CRX1)D0 (io), D1 (CTX1)D1 (io), D2 (io), D3 (io), D4 (io), D5 (io), D6 (io), D7 (io), D8 (io), D9 (io), D10 (CS)D10 (io), D11 (SDO)D11 (io), D12 (SDI)D12 (io), D13 (CLK)D13 (io), D14 A0 (io), D15 A1 (io), D16 A2 (io), D17 A3 (io), D18 A4 (io), D19 A5 (io), D20 A6 (io), D21 A7 (io), D22 A8 (io), D23 A9 (io), VBAT (power), VIN (power)

## TEENSY_4.0SM
designator A?, comment Teensy 4.0  Datasheet Requires ordering of:  2: 14 pin, 0.1" pitch female headers. Recommend Samtec SSM-114-L-SV for surface mount variant.  (value not drawn)
GateName_1: G$1; SymbolName_1: TEENSY_4.0; DeviceName: SM; TEENSY: 4.0; LibraryName: HyTechDevices; DeviceSetName: TEENSY_4.0; Package: TEENSY_SHORT_SSM
footprint TEENSY_SHORT_SSM
pins: 3.3V (power), AGND/GND,GND GND (power), D0 (CRX1)D0 (io), D1 (CTX1)D1 (io), D2 (io), D3 (io), D4 (io), D5 (io), D6 (io), D7 (io), D8 (io), D9 (io), D10 (CS)D10 (io), D11 (SDO)D11 (io), D12 (SDI)D12 (io), D13 (CLK)D13 (io), D14 A0 (io), D15 A1 (io), D16 A2 (io), D17 A3 (io), D18 A4 (io), D19 A5 (io), D20 A6 (io), D21 A7 (io), D22 A8 (io), D23 A9 (io), VIN (power)

## TEENSY_4.0TH
designator A?, comment Teensy 4.0  Datasheet Requires ordering of:  2: 14 pin, 0.1" pitch female headers. Recommend Samtec SSM-114-L-SV for surface mount variant.  (value not drawn)
GateName_1: G$1; SymbolName_1: TEENSY_4.0; DeviceName: TH; TEENSY: 4.0; LibraryName: HyTechDevices; DeviceSetName: TEENSY_4.0; Package: TEENSY_SHORT
footprint TEENSY_SHORT
pins: 3.3V (power), AGND/GND,GND GND (power), D0 (CRX1)D0 (io), D1 (CTX1)D1 (io), D2 (io), D3 (io), D4 (io), D5 (io), D6 (io), D7 (io), D8 (io), D9 (io), D10 (CS)D10 (io), D11 (SDO)D11 (io), D12 (SDI)D12 (io), D13 (CLK)D13 (io), D14 A0 (io), D15 A1 (io), D16 A2 (io), D17 A3 (io), D18 A4 (io), D19 A5 (io), D20 A6 (io), D21 A7 (io), D22 A8 (io), D23 A9 (io), VIN (power)

## TEENSY_4.1
designator A?, comment Teensy 4.1 with VBAT  Datasheet Requires ordering of:  2: 24 pin, 0.1" pitch female headers  1:  2 pin, 0.1" pitch female headers  (value not drawn)
GateName_1: G$1; SymbolName_1: TEENSY_4.1_EXT; DeviceSetName: TEENSY_4.1; TEENSY: 4.1; LibraryName: HyTechDevices; Package: TEENSY_LONG_EXT
footprint TEENSY_LONG_EXT
pins: 3V3,3V3@2,3V3@3 3.3V (power), AGND/GND,GND,GND@2 GND (io), D0 (CRX1)D0 (io), D1 (CTX1)D1 (io), D2 (io), D3 (io), D4 (io), D5 (io), D6 (io), D7 (io), D8 (io), D9 (io), D10 (CS)D10 (io), D11 (SDO)D11 (io), D12 (SDI)D12 (io), D13 (CLK)D13 (io), D14 A0 (io), D15 A1 (io), D16 A2 (io), D17 A3 (io), D18 A4 (io), D19 A5 (io), D20 A6 (io), D21 A7 (io), D22 A8 (io), D23 A9 (io), D24 A10 (io), D25 A11 (io), D26 A12 (io), D27 A13 (io), D28 (io), D29 (io), D30 (io), D31 (io), D32 (io), D33 (io), D34 (io), D35 (io), D36 (io), D37 (io), D38 A14 (io), D39 A15 (io), D40 A16 (io), D41 A17 (io), VBAT (power), VIN (power)

## TEENSY_4.1_SMT
designator A?, comment Teensy 4.1 without VBAT  Datasheet Requires ordering of:  2: 24 pin, 0.1" pitch SMT female headers  (value not drawn)
GateName_1: G$1; SymbolName_1: TEENSY_4.1_EXT_NOBATT; DeviceSetName: TEENSY_4.1_SMT; TEENSY: 4.1; LibraryName: HyTechDevices; Package: TEENSY_LONG_SSM
footprint TEENSY_LONG_SSM
pins: 3.3V,3.3V@1 3.3V (power), AGND/GND,GND,GND@1 GND (io), D0 (CRX1)D0 (io), D1 (CTX1)D1 (io), D2 (io), D3 (io), D4 (io), D5 (io), D6 (io), D7 (io), D8 (io), D9 (io), D10 (CS)D10 (io), D11 (SDO)D11 (io), D12 (SDI)D12 (io), D13 (CLK)D13 (io), D14 A0 (io), D15 A1 (io), D16 A2 (io), D17 A3 (io), D18 A4 (io), D19 A5 (io), D20 A6 (io), D21 A7 (io), D22 A8 (io), D23 A9 (io), D24 A10 (io), D25 A11 (io), D26 A12 (io), D27 A13 (io), D28 (io), D29 (io), D30 (io), D31 (io), D32 (io), D33 (io), D34 (io), D35 (io), D36 (io), D37 (io), D38 A14 (io), D39 A15 (io), D40 A16 (io), D41 A17 (io), VIN (power)

## TEST_POINT
designator TP?, comment Test Point for Probing  (value not drawn)
MANUFACTURER: Keystone Electronics; MPN: 5015; GateName_1: G$1; SymbolName_1: TEST_POINT; DKPN: 36-5015CT-ND; MOPN: 534-5015; LibraryName: HyTechDevices; DeviceSetName: TEST_POINT; Package: 5015
footprint 5015
pins: 1

## THERMISTOR
designator RT?, comment Thermistor  Datasheet Murata  (value not drawn)
MANUFACTURER: Murata Electronics; MPN: NCU18XH103D60RB; GateName_1: G$1; SymbolName_1: RESISTOR_THERMISTOR; DKPN: 490-18147-1-ND; MOPN: 81-NCU18XH103D60RB; RESISTANCE: 10k; LibraryName: HyTechDevices; DeviceSetName: THERMISTOR; Package: 0603-RES
footprint 0603-RES
pins: 1, 2

## TMCS1100A*
designator U?, comment TMCS1100A* Hall-Effect Current Sensor  Datasheet  (value not drawn)
MANUFACTURER: Texas Instruments; MPN: TMCS1100A4; GateName_1: G$1; DKPN: 296-TMCS1100A4QDR; MOPN: 595-TMCS1100A4QDR; MOPN: 595-TMCS1100A4QDT; SymbolName_1: TMCS1100A*; LibraryName: HyTechDevices; DeviceSetName: TMCS1100A*; Package: SOIC-08(NARROW,0.15")
footprint SOIC-08(NARROW,0.15")
pins: 1,2 IN+ (in), 3,4 IN- (out), 5 GND (power), 6 VREF (in), 7 VOUT (out), 8 VDD (power)

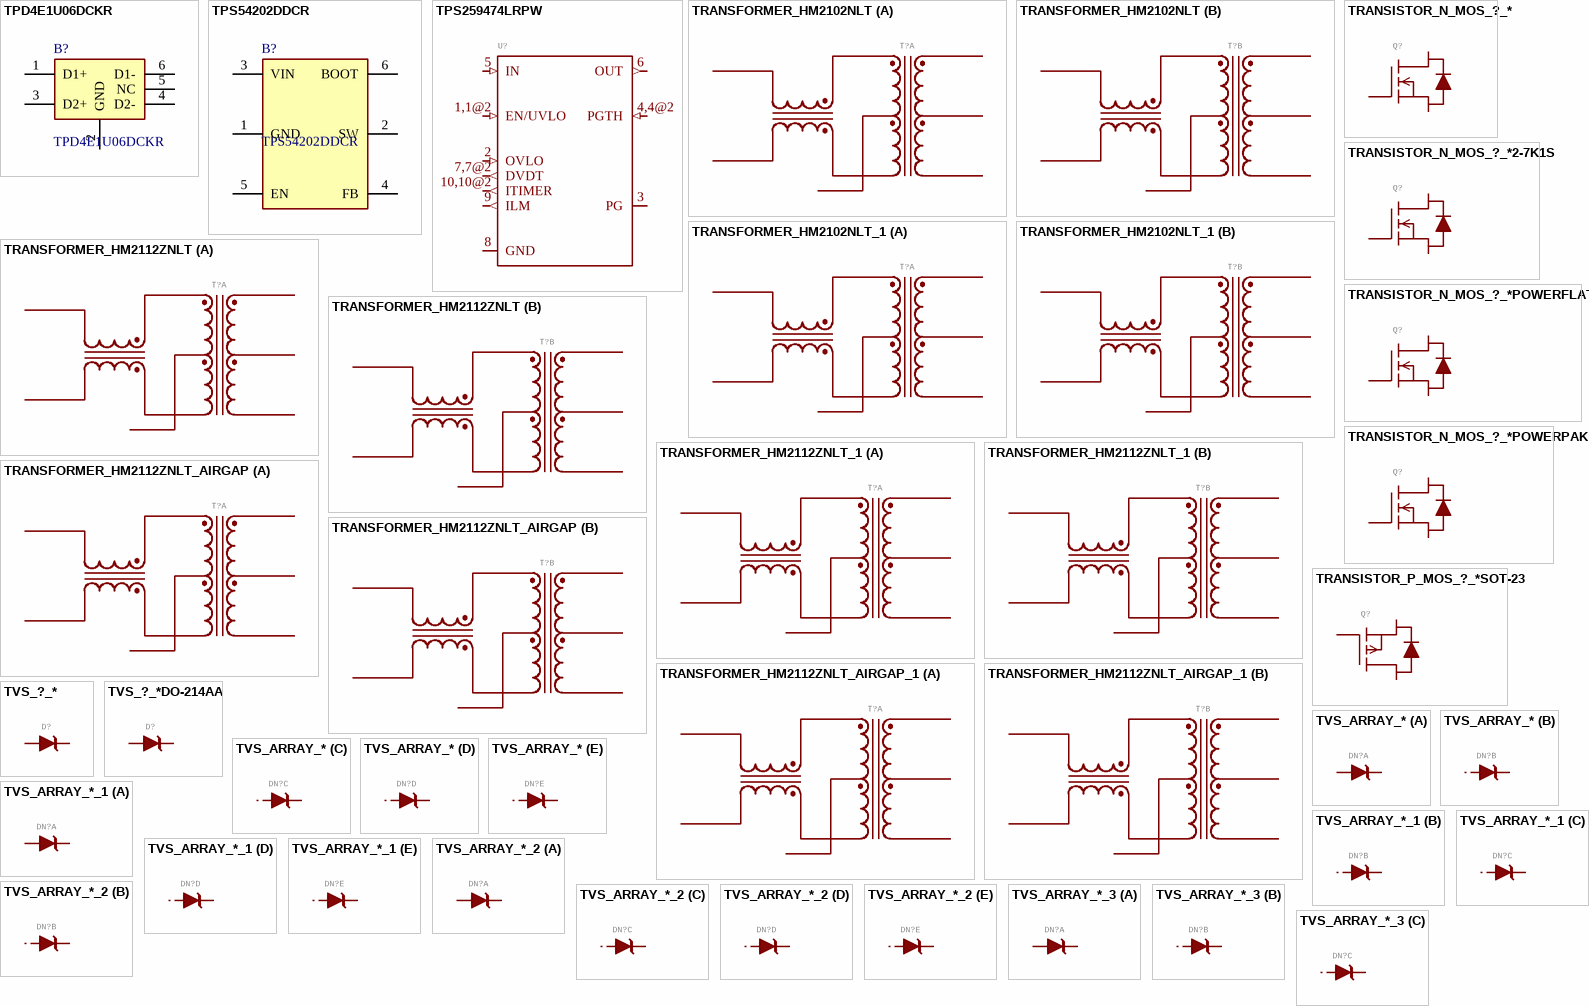
[diagram p6: symbols TPD4E1U06DCKR to TVS_ARRAY_*_3]

## TPD4E1U06DCKR
designator B?
Quad-Channel High-Speed ESD Protection Device; Manufacturer_Name: Texas Instruments; Geometry.Height: 1.1mm; Mouser Part Number: 595-TPD4E1U06DCKR; Mouser Price/Stock: https://www.mouser.co.uk/ProductDetail/Texas-Instruments/TPD4E1U06DCKR?qs=FBI%252BX3tnPf27UOVCu86Dnw%3D%3D; Manufacturer_Part_Number: TPD4E1U06DCKR; Datasheet Link: http://www.ti.com/lit/gpn/tpd4e1u06
footprint SC-70-6
pins: 1 D1+, 2 GND, 3 D2+, 4 D2-, 5 NC, 6 D1-

## TPS54202DDCR
designator B?
4.5V to 28V Input, 2A Output, EMI Friendly Synchronous Step-Down Converter; Manufacturer_Name: Texas Instruments; Geometry.Height: 1.1mm; Mouser Part Number: 595-TPS54202DDCR; Mouser Price/Stock: https://www.mouser.co.uk/ProductDetail/Texas-Instruments/TPS54202DDCR?qs=uP22XH7NdCsJtN%2Fq54jCtQ%3D%3D; Manufacturer_Part_Number: TPS54202DDCR; Datasheet Link: http://www.ti.com/lit/gpn/tps54202
footprint SOT-23-6
pins: 1 GND, 2 SW, 3 VIN, 4 FB, 5 EN (power), 6 BOOT

## TPS259474LRPW
designator U?, comment TPS259474x E-Fuse  Datasheet Note: See page 32 for application schematic.  (value not drawn)
GateName_1: G$1; SymbolName_1: TPS259474*; DeviceSetName: TPS259474LRPW; LibraryName: HyTechDevices; Package: VQFN-HR-10; MPN: TPS259474LRPW
footprint VQFN-HR-10
pins: 1,1@2 EN/UVLO (in), 2 OVLO (in), 3 PG (oc), 4,4@2 PGTH (in), 5 IN (in), 6 OUT (out), 7,7@2 DVDT (out), 8 GND (power), 9 ILM (out), 10,10@2 ITIMER (out)

## TRANSFORMER_HM2102NLT
designator T?, comment 2 Channel SMT Transformer Specs for both HM2102NL and HM2112ZNL Transformers Turns ratio: 1CT: 1CT Isolation Voltage: 4300 VDC Inductance: 150 uH Leakage Inductance: 0.50 uH max    HM2102NLT: Datasheet   HM2112ZNLT: Datasheet  (value not drawn)
MANUFACTURER: Pulse Electronics Network; GateName_1: A; GateName_2: B; DeviceName: _HM2102NLT; DKPN: 1840-1034-1-ND; MOPN: 673-HM2102NLT; SymbolName_1: TRANSFORMER; SymbolName_2: TRANSFORMER; LibraryName: HyTechDevices; DeviceSetName: TRANSFORMER; Package: HM2102NLT; MPN: HM2102NLT
footprint HM2102NLT
part A pins: 1 MX+, 2 MCT, 3 MX-, 10 TD-, 11 TCT, 12 TD+
part B pins: 4 MX+, 5 MCT, 6 MX-, 7 TD-, 8 TCT, 9 TD+

## TRANSFORMER_HM2102NLT_1
designator T?, comment 2 Channel SMT Transformer Specs for both HM2102NL and HM2112ZNL Transformers Turns ratio: 1CT: 1CT Isolation Voltage: 4300 VDC Inductance: 150 uH Leakage Inductance: 0.50 uH max    HM2102NLT: Datasheet   HM2112ZNLT: Datasheet  (value not drawn)
MANUFACTURER: Pulse Electronics Network; GateName_1: A; GateName_2: B; DeviceName: _HM2102NLT; DKPN: 1840-1034-1-ND; MOPN: 673-HM2102NLT; SymbolName_1: TRANSFORMER; SymbolName_2: TRANSFORMER; LibraryName: HyTechDevices; DeviceSetName: TRANSFORMER; Package: HM2102NLT; MPN: HM2102NLT
footprint HM2102NLT
part A pins: 1 MX+, 2 MCT, 3 MX-, 10 TD-, 11 TCT, 12 TD+
part B pins: 4 MX+, 5 MCT, 6 MX-, 7 TD-, 8 TCT, 9 TD+

## TRANSFORMER_HM2112ZNLT
designator T?, comment 2 Channel SMT Transformer Specs for both HM2102NL and HM2112ZNL Transformers Turns ratio: 1CT: 1CT Isolation Voltage: 4300 VDC Inductance: 150 uH Leakage Inductance: 0.50 uH max    HM2102NLT: Datasheet   HM2112ZNLT: Datasheet  (value not drawn)
MANUFACTURER: Pulse Electronics; GateName_1: A; GateName_2: B; DeviceName: _HM2112ZNLT; DKPN: 1840-1036-1-ND; MOPN: 673-HM2112ZNLT; SymbolName_1: TRANSFORMER; SymbolName_2: TRANSFORMER; LibraryName: HyTechDevices; DeviceSetName: TRANSFORMER; Package: HM2112ZNLT; MPN: HM2112ZNLT
footprint HM2112ZNLT
part A pins: 1 MX+, 2 MCT, 3 MX-, 10 TD-, 11 TCT, 12 TD+
part B pins: 4 MX+, 5 MCT, 6 MX-, 7 TD-, 8 TCT, 9 TD+

## TRANSFORMER_HM2112ZNLT_1
designator T?, comment 2 Channel SMT Transformer Specs for both HM2102NL and HM2112ZNL Transformers Turns ratio: 1CT: 1CT Isolation Voltage: 4300 VDC Inductance: 150 uH Leakage Inductance: 0.50 uH max    HM2102NLT: Datasheet   HM2112ZNLT: Datasheet  (value not drawn)
MANUFACTURER: Pulse Electronics; GateName_1: A; GateName_2: B; DeviceName: _HM2112ZNLT; DKPN: 1840-1036-1-ND; MOPN: 673-HM2112ZNLT; SymbolName_1: TRANSFORMER; SymbolName_2: TRANSFORMER; LibraryName: HyTechDevices; DeviceSetName: TRANSFORMER; Package: HM2112ZNLT; MPN: HM2112ZNLT
footprint HM2112ZNLT
part A pins: 1 MX+, 2 MCT, 3 MX-, 10 TD-, 11 TCT, 12 TD+
part B pins: 4 MX+, 5 MCT, 6 MX-, 7 TD-, 8 TCT, 9 TD+

## TRANSFORMER_HM2112ZNLT_AIRGAP
designator T?, comment 2 Channel SMT Transformer Specs for both HM2102NL and HM2112ZNL Transformers Turns ratio: 1CT: 1CT Isolation Voltage: 4300 VDC Inductance: 150 uH Leakage Inductance: 0.50 uH max    HM2102NLT: Datasheet   HM2112ZNLT: Datasheet  (value not drawn)
MANUFACTURER: Pulse Electronics; GateName_1: A; GateName_2: B; DeviceName: _HM2112ZNLT_AIRGAP; DKPN: 1840-1036-1-ND; MOPN: 673-HM2112ZNLT; SymbolName_1: TRANSFORMER; SymbolName_2: TRANSFORMER; LibraryName: HyTechDevices; DeviceSetName: TRANSFORMER; Package: HM2112ZNLT_AIRGAP; MPN: HM2112ZNLT
footprint HM2112ZNLT_AIRGAP
part A pins: 1 MX+, 2 MCT, 3 MX-, 10 TD-, 11 TCT, 12 TD+
part B pins: 4 MX+, 5 MCT, 6 MX-, 7 TD-, 8 TCT, 9 TD+

## TRANSFORMER_HM2112ZNLT_AIRGAP_1
designator T?, comment 2 Channel SMT Transformer Specs for both HM2102NL and HM2112ZNL Transformers Turns ratio: 1CT: 1CT Isolation Voltage: 4300 VDC Inductance: 150 uH Leakage Inductance: 0.50 uH max    HM2102NLT: Datasheet   HM2112ZNLT: Datasheet  (value not drawn)
MANUFACTURER: Pulse Electronics; GateName_1: A; GateName_2: B; DeviceName: _HM2112ZNLT_AIRGAP; DKPN: 1840-1036-1-ND; MOPN: 673-HM2112ZNLT; SymbolName_1: TRANSFORMER; SymbolName_2: TRANSFORMER; LibraryName: HyTechDevices; DeviceSetName: TRANSFORMER; Package: HM2112ZNLT_AIRGAP; MPN: HM2112ZNLT
footprint HM2112ZNLT_AIRGAP
part A pins: 1 MX+, 2 MCT, 3 MX-, 10 TD-, 11 TCT, 12 TD+
part B pins: 4 MX+, 5 MCT, 6 MX-, 7 TD-, 8 TCT, 9 TD+

## TRANSISTOR_N_MOS_?_*
designator Q?, comment N-MOSFET  PMV15ENEA Datasheet  TK6P65W Datasheet  SIR638ADP Datasheet  DMG3406L Datasheet     STL2N80K5  (value not drawn)
MANUFACTURER: Diodes Incorporated; MPN: DMG3406L-7; MANUFACTURER: Nexperia USA Inc.; MPN: PMV15ENEAR; GateName_1: G$1; SymbolName_1: MOSFET_N-CHANNEL; DeviceSetName: TRANSISTOR_N_MOS_?_*; DKPN: DMG3406L-7DITR-ND; MOPN: 621-DMG3406L-7; DKPN: 1727-8588-1-ND; MOPN: 771-PMV15ENEAR; LibraryName: HyTechDevices; Package: SOT-23
footprint SOT-23
pins: 1 G, 2 S, 3 D

## TRANSISTOR_N_MOS_?_*2-7K1S
designator Q?, comment N-MOSFET  PMV15ENEA Datasheet  TK6P65W Datasheet  SIR638ADP Datasheet  DMG3406L Datasheet     STL2N80K5  (value not drawn)
MANUFACTURER: Toshiba Semiconductor and Storage; MPN: TK100S04N1L,LQ; MPN: TK6P65W,RQ; GateName_1: G$1; SymbolName_1: MOSFET_N-CHANNEL; DeviceName: 2-7K1S; DeviceSetName: TRANSISTOR_N_MOS_?_*; DKPN: TK100S04N1LLQCT-ND; MOPN: 757-TK100S04N1LLQ; DKPN: TK6P65WRQCT-ND; MOPN: 757-TK6P65WRQ; LibraryName: HyTechDevices; Package: DPAK(2-7K1S)
footprint DPAK(2-7K1S)
pins: 1 G, 2 D, 3 S

## TRANSISTOR_N_MOS_?_*POWERFLAT5X6
designator Q?, comment N-MOSFET  PMV15ENEA Datasheet  TK6P65W Datasheet  SIR638ADP Datasheet  DMG3406L Datasheet     STL2N80K5  (value not drawn)
MANUFACTURER: STMicroelectronics; GateName_1: G$1; SymbolName_1: MOSFET_N-CHANNEL; DeviceName: POWERFLAT5X6; DeviceSetName: TRANSISTOR_N_MOS_?_*; DKPN: 497-14539-1-ND; MOPN: 511-STL2N80K5; LibraryName: HyTechDevices; Package: POWERFLAT5X6; MPN: STL2N80K5
footprint POWERFLAT5X6
pins: D, G, S

## TRANSISTOR_N_MOS_?_*POWERPAK
designator Q?, comment N-MOSFET  PMV15ENEA Datasheet  TK6P65W Datasheet  SIR638ADP Datasheet  DMG3406L Datasheet     STL2N80K5  (value not drawn)
MANUFACTURER: Vishay Siliconix; MPN: SIR638ADP-T1-RE3; GateName_1: G$1; SymbolName_1: MOSFET_N-CHANNEL; DeviceName: POWERPAK; DeviceSetName: TRANSISTOR_N_MOS_?_*; DKPN: SIR638ADP-T1-RE3CT-ND; LibraryName: HyTechDevices; Package: POWERPAK_SO-8; MOPN: Vishay Siliconix
footprint POWERPAK_SO-8
pins: 1-3 S, 4 G, D@5,D@6,D@7,D@8,D@PAD D

## TRANSISTOR_P_MOS_?_*SOT-23
designator Q?, comment P-MOSFET  SI2369DS Datasheet  DMP3056L Datasheet  (value not drawn)
MANUFACTURER: Diodes Incorporated; MPN: DMP3056L-7; MANUFACTURER: Vishay Siliconix; MPN: SI2369DS-T1-GE3; GateName_1: G$1; SymbolName_1: MOSFET_P-CHANNEL; DeviceName: SOT-23; DeviceSetName: TRANSISTOR_P_MOS_?_*; DKPN: DMP3056L-7DITR-ND; MOPN: 621-DMP3056L-7; DKPN: SI2369DS-T1-GE3CT-ND; MOPN: 78-SI2369DS-T1-GE3; LibraryName: HyTechDevices; Package: SOT-23
footprint SOT-23
pins: 1 G, 2 S, 3 D

## TVS_?_*
designator D?, comment TVS Diode  GSOT Datasheet  (value not drawn)
MANUFACTURER: Vishay General Semiconductor - Diodes Division; MPN: GSOT15-E3-08; MPN: GSOT04-E3-08; MPN: GSOT05-E3-08; MPN: GSOT08-E3-08; GateName_1: G$1; SymbolName_1: DIODE_TVS_UNIDIRECTIONAL; DeviceSetName: TVS_?_*; DKPN: GSOT15-E3-08CT-ND; MOPN: 78-GSOT15-E3-08; VOLTAGE: 15V; DKPN: GSOT04-E3-08CT-ND; MOPN: 78-GSOT04-E3-08; VOLTAGE: 4V; DKPN: GSOT05-E3-08TR-ND; MOPN: 78-GSOT05-E3-08; VOLTAGE: 5V; DKPN: GSOT08-E3-08TR-ND; MOPN: 78-GSOT08-E3-08; VOLTAGE: 8V; LibraryName: HyTechDevices; Package: SOT-23
footprint SOT-23
pins: 1 A, 3 C

## TVS_?_*DO-214AA
designator D?, comment TVS Diode  GSOT Datasheet  (value not drawn)
MANUFACTURER: Bourns Inc.; MPN: 1.5SMBJ28A; MPN: 1.5SMBJ30A; GateName_1: G$1; SymbolName_1: DIODE_TVS_UNIDIRECTIONAL; DeviceName: DO-214AA; DeviceSetName: TVS_?_*; DKPN: 118-1.5SMBJ28ATR-ND; MOPN: 652-1.5SMBJ28A; VOLTAGE: 28V; DKPN: 118-1.5SMBJ30ATR-ND; MOPN: 652-1.5SMBJ30A; VOLTAGE: 30V; LibraryName: HyTechDevices; Package: DO-214AA
footprint DO-214AA
pins: 1 A, 2 C

## TVS_ARRAY_*
designator DN?, comment TVS Diode Array  Datasheet  (value not drawn)
MANUFACTURER: Vishay General Semiconductor - Diodes Division; MPN: VESD16A5-06G-G3-08; MPN: VESD05A5-06G-G3-08; GateName_1: A; SymbolName_1: DIODE_TVS_UNIDIRECTIONAL; GateName_2: B; SymbolName_2: DIODE_TVS_UNIDIRECTIONAL_SINGLE_ENDED; GateName_3: C; GateName_4: D; GateName_5: E; DeviceSetName: TVS_ARRAY_*; DKPN: 112-VESD16A5-06G-G3-08CT-ND; MOPN: 78-VESD16A5-06G-G308; VOLTAGE: 16V; DKPN: 112-VESD05A5-06G-G3-08CT-ND; MOPN: 78-VESD05A5-06G-G308; VOLTAGE: 5V; SymbolName_3: DIODE_TVS_UNIDIRECTIONAL_SINGLE_ENDED; SymbolName_4: DIODE_TVS_UNIDIRECTIONAL_SINGLE_ENDED; SymbolName_5: DIODE_TVS_UNIDIRECTIONAL_SINGLE_ENDED; LibraryName: HyTechDevices; Package: SOT-363
footprint SOT-363
part A pins: 1 C, 2 A
part B pins: 3 C
part C pins: 4 C
part D pins: 5 C
part E pins: 6 C

## TVS_ARRAY_*_1
designator DN?, comment TVS Diode Array  Datasheet  (value not drawn)
MANUFACTURER: Vishay General Semiconductor - Diodes Division; MPN: VESD16A5-06G-G3-08; MPN: VESD05A5-06G-G3-08; GateName_1: A; SymbolName_1: DIODE_TVS_UNIDIRECTIONAL; GateName_2: B; SymbolName_2: DIODE_TVS_UNIDIRECTIONAL_SINGLE_ENDED; GateName_3: C; GateName_4: D; GateName_5: E; DeviceSetName: TVS_ARRAY_*; DKPN: 112-VESD16A5-06G-G3-08CT-ND; MOPN: 78-VESD16A5-06G-G308; VOLTAGE: 16V; DKPN: 112-VESD05A5-06G-G3-08CT-ND; MOPN: 78-VESD05A5-06G-G308; VOLTAGE: 5V; SymbolName_3: DIODE_TVS_UNIDIRECTIONAL_SINGLE_ENDED; SymbolName_4: DIODE_TVS_UNIDIRECTIONAL_SINGLE_ENDED; SymbolName_5: DIODE_TVS_UNIDIRECTIONAL_SINGLE_ENDED; LibraryName: HyTechDevices; Package: SOT-363
footprint SOT-363
part A pins: 1 C, 2 A
part B pins: 3 C
part C pins: 4 C
part D pins: 5 C
part E pins: 6 C

## TVS_ARRAY_*_2
designator DN?, comment TVS Diode Array  Datasheet  (value not drawn)
MANUFACTURER: Vishay General Semiconductor - Diodes Division; MPN: VESD16A5-06G-G3-08; MPN: VESD05A5-06G-G3-08; GateName_1: A; SymbolName_1: DIODE_TVS_UNIDIRECTIONAL; GateName_2: B; SymbolName_2: DIODE_TVS_UNIDIRECTIONAL_SINGLE_ENDED; GateName_3: C; GateName_4: D; GateName_5: E; DeviceSetName: TVS_ARRAY_*; DKPN: 112-VESD16A5-06G-G3-08CT-ND; MOPN: 78-VESD16A5-06G-G308; VOLTAGE: 16V; DKPN: 112-VESD05A5-06G-G3-08CT-ND; MOPN: 78-VESD05A5-06G-G308; VOLTAGE: 5V; SymbolName_3: DIODE_TVS_UNIDIRECTIONAL_SINGLE_ENDED; SymbolName_4: DIODE_TVS_UNIDIRECTIONAL_SINGLE_ENDED; SymbolName_5: DIODE_TVS_UNIDIRECTIONAL_SINGLE_ENDED; LibraryName: HyTechDevices; Package: SOT-363
footprint SOT-363
part A pins: 1 C, 2 A
part B pins: 3 C
part C pins: 4 C
part D pins: 5 C
part E pins: 6 C

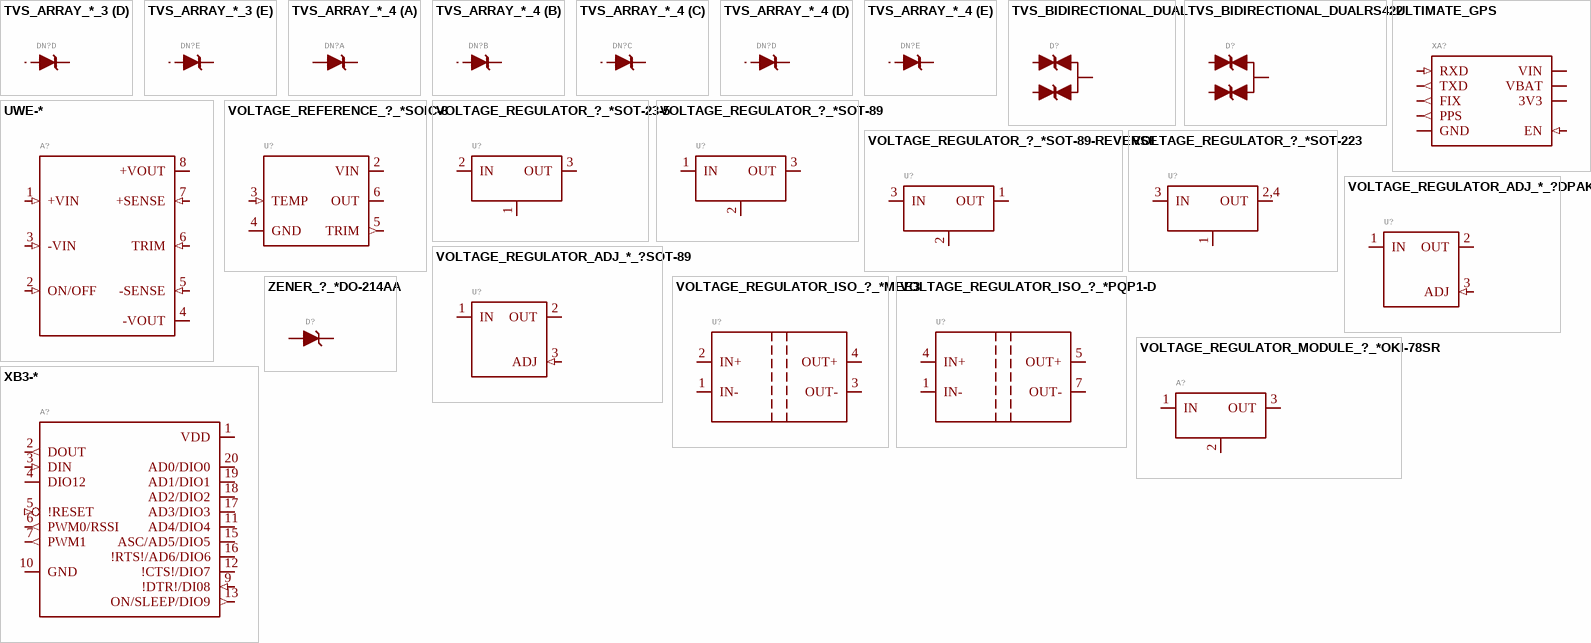
[diagram p7: symbols TVS_ARRAY_*_3 to ZENER_?_*DO-214AA]

## TVS_ARRAY_*_3
designator DN?, comment TVS Diode Array  Datasheet  (value not drawn)
MANUFACTURER: Vishay General Semiconductor - Diodes Division; MPN: VESD16A5-06G-G3-08; MPN: VESD05A5-06G-G3-08; GateName_1: A; SymbolName_1: DIODE_TVS_UNIDIRECTIONAL; GateName_2: B; SymbolName_2: DIODE_TVS_UNIDIRECTIONAL_SINGLE_ENDED; GateName_3: C; GateName_4: D; GateName_5: E; DeviceSetName: TVS_ARRAY_*; DKPN: 112-VESD16A5-06G-G3-08CT-ND; MOPN: 78-VESD16A5-06G-G308; VOLTAGE: 16V; DKPN: 112-VESD05A5-06G-G3-08CT-ND; MOPN: 78-VESD05A5-06G-G308; VOLTAGE: 5V; SymbolName_3: DIODE_TVS_UNIDIRECTIONAL_SINGLE_ENDED; SymbolName_4: DIODE_TVS_UNIDIRECTIONAL_SINGLE_ENDED; SymbolName_5: DIODE_TVS_UNIDIRECTIONAL_SINGLE_ENDED; LibraryName: HyTechDevices; Package: SOT-363
footprint SOT-363
part A pins: 1 C, 2 A
part B pins: 3 C
part C pins: 4 C
part D pins: 5 C
part E pins: 6 C

## TVS_ARRAY_*_4
designator DN?, comment TVS Diode Array  Datasheet  (value not drawn)
MANUFACTURER: Vishay General Semiconductor - Diodes Division; MPN: VESD16A5-06G-G3-08; MPN: VESD05A5-06G-G3-08; GateName_1: A; SymbolName_1: DIODE_TVS_UNIDIRECTIONAL; GateName_2: B; SymbolName_2: DIODE_TVS_UNIDIRECTIONAL_SINGLE_ENDED; GateName_3: C; GateName_4: D; GateName_5: E; DeviceSetName: TVS_ARRAY_*; DKPN: 112-VESD16A5-06G-G3-08CT-ND; MOPN: 78-VESD16A5-06G-G308; VOLTAGE: 16V; DKPN: 112-VESD05A5-06G-G3-08CT-ND; MOPN: 78-VESD05A5-06G-G308; VOLTAGE: 5V; SymbolName_3: DIODE_TVS_UNIDIRECTIONAL_SINGLE_ENDED; SymbolName_4: DIODE_TVS_UNIDIRECTIONAL_SINGLE_ENDED; SymbolName_5: DIODE_TVS_UNIDIRECTIONAL_SINGLE_ENDED; LibraryName: HyTechDevices; Package: SOT-363
footprint SOT-363
part A pins: 1 C, 2 A
part B pins: 3 C
part C pins: 4 C
part D pins: 5 C
part E pins: 6 C

## TVS_BIDIRECTIONAL_DUAL
designator D?, comment Bdirectional TVS for CAN ESD  Datasheet  SM712 Bidirectional TVS Diode  -7V to 12V RSV  Used for RS485 transreceiver chips  (Works for RS422 since ADM4854ARZ runs both)  (value not drawn)
MANUFACTURER: Texas Instruments; MPN: TPD2E007DCKR; GateName_1: G$1; SymbolName_1: DIODE_TVS_BIDIRECTIONAL_DUAL; DeviceSetName: TVS_BIDIRECTIONAL_DUAL; DKPN: 296-25281-1-ND; MOPN: 595-TPD2E007DCKR; LibraryName: HyTechDevices; Package: SC-70-3
footprint SC-70-3
pins: 1 C1, 2 C2, 3 A

## TVS_BIDIRECTIONAL_DUALRS422
designator D?, comment Bdirectional TVS for CAN ESD  Datasheet  SM712 Bidirectional TVS Diode  -7V to 12V RSV  Used for RS485 transreceiver chips  (Works for RS422 since ADM4854ARZ runs both)  (value not drawn)
MANUFACTURER: Semtech Corporation; MPN: SM712.TCT; GateName_1: G$1; SymbolName_1: DIODE_TVS_BIDIRECTIONAL_DUAL; DeviceSetName: TVS_BIDIRECTIONAL_DUAL; DKPN: SM712CT-ND; MOPN: 947-SM712.TCT; DeviceName: RS422; LibraryName: HyTechDevices; Package: SOT-23
footprint SOT-23
pins: 1 C1, 2 C2, 3 A